# Altium schematic symbol library AZ1084C.SchLib: 1 symbol
Pins are listed as number, name and electrical type; pins without a type are passive.

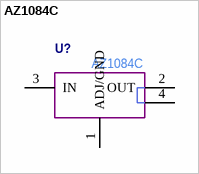
[diagram p0: symbol AZ1084C]

## AZ1084C
designator U?
Manufacturer Part Number: AZ1084C
pins: 1 ADJ/GND, 2 OUT, 3 IN, 4 OUT